# Altium footprint library SMD Resistor Variable.PcbLib: 4 footprints
Each footprint in its own frame and in the unit in brackets; x right, y up, seen from the top. Pads: shape width x height; smd on the part's side, far side on the other; paste and mask are expansions set on the pad; w line width, h text height; cw(c..) or ccw(c..) is an arc to the next point about the centre after c.
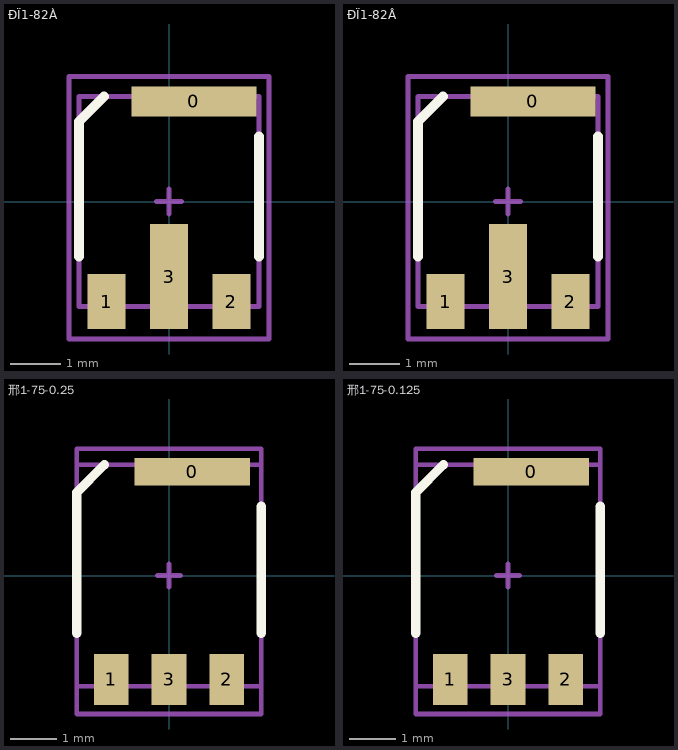
[diagram p0: the footprints below, top view; thin cyan lines are the x and y axes]

## ÐÏ1-82À [mm]
height 3.3
pads (4):
  rect 2.5x0.6 smd: 0(0.5,2)
  rect 0.75x1.1 smd: 1(-1.25,-2) 2(1.25,-2)
  rect 0.75x2.1 smd: 3(0,-1.5)
Top Overlay:
  lines w0.2: -1.8,-1.1 -1.8,1.6 -1.3,2.1 ; 1.8,-1.1 1.8,1.3
Mechanical 7:
  lines w0.05: -2,-2.75 2,-2.75 2,2.5 -2,2.5 -2,-2.75
  text ".Designator" at -1.75,-0.5 h1.5
Mechanical 13:
  lines w0.1: -1.8,-2.1 -1.8,2.1 1.8,2.1 1.8,-2.1 -1.8,-2.1
  text "Check" at -2.2,2.9 h1
Mechanical 15:
  lines w0.1: -0.25,0 0.25,0 ; 0,-0.25 0,0.25 ; -2,-2.75 2,-2.75 2,2.5 -2,2.5 -2,-2.75

## ÐÏ1-82Â [mm]
height 3.3
pads (4):
  rect 2.5x0.6 smd: 0(0.5,2)
  rect 0.75x1.1 smd: 1(-1.25,-2) 2(1.25,-2)
  rect 0.75x2.1 smd: 3(0,-1.5)
Top Overlay:
  lines w0.2: -1.8,-1.1 -1.8,1.6 -1.3,2.1 ; 1.8,-1.1 1.8,1.3
Mechanical 7:
  lines w0.05: -2,-2.75 2,-2.75 2,2.5 -2,2.5 -2,-2.75
  text ".Designator" at -1.75,-0.5 h1.5
Mechanical 13:
  lines w0.1: -1.8,-2.1 -1.8,2.1 1.8,2.1 1.8,-2.1 -1.8,-2.1
  text "Not Ready!" at -4.4,2.9 h1
Mechanical 15:
  lines w0.1: -0.25,0 0.25,0 ; 0,-0.25 0,0.25 ; -2,-2.75 2,-2.75 2,2.5 -2,2.5 -2,-2.75

## 邢1-75-0.25 [mm]
height 1.8
pads (4):
  rect 2.5x0.6 smd: 0(0.5,2.25)
  rect 0.75x1.1 smd: 1(-1.25,-2.25) 2(1.25,-2.25) 3(0,-2.25)
Top Overlay:
  lines w0.2: -2,-1.25 -2,1.8 -1.4,2.4 ; 2,-1.25 2,1.5
Mechanical 7:
  lines w0.05: -2,-3 2,-3 2,2.75 -2,2.75 -2,-3
  text ".Designator" at -1.75,-0.5 h1.5
Mechanical 13:
  lines w0.1: -2,-2.4 -2,2.4 2,2.4 2,-2.4 -2,-2.4
  text "Not Ready!" at -4.4,2.9 h1
Mechanical 15:
  lines w0.1: -0.25,0 0.25,0 ; 0,-0.25 0,0.25 ; -2,-3 2,-3 2,2.75 -2,2.75 -2,-3
3D body "User Library-PVZ3A.STEP": height 1.95, standoff 0, extent -1.55,-1.85 1.55,1.84

## 邢1-75-0.125 [mm]
height 1.8
pads (4):
  rect 2.5x0.6 smd: 0(0.5,2.25)
  rect 0.75x1.1 smd: 1(-1.25,-2.25) 2(1.25,-2.25) 3(0,-2.25)
Top Overlay:
  lines w0.2: -2,-1.25 -2,1.8 -1.4,2.4 ; 2,-1.25 2,1.5
Mechanical 7:
  lines w0.05: -2,-3 -2,2.75 2,2.75 2,-3 -2,-3
  text ".Designator" at -1.75,-0.5 h1.5
Mechanical 13:
  lines w0.1: -2,-2.4 2,-2.4 2,2.4 -2,2.4 -2,-2.4
  text "Check" at -2.2,2.9 h1
Mechanical 15:
  lines w0.1: -0.25,0 0.25,0 ; 0,-0.25 0,0.25 ; -2,-3 -2,2.75 2,2.75 2,-3 -2,-3
3D body "User Library-PVZ3A.STEP": height 1.95, standoff 0, extent -1.55,-1.85 1.55,1.84